# Altium footprint library BCM_TI.PcbLib: 1 footprints
Each footprint in its own frame and in the unit in brackets; x right, y up, seen from the top. Pads: shape width x height; smd on the part's side, far side on the other; paste and mask are expansions set on the pad; w line width, h text height; cw(c..) or ccw(c..) is an arc to the next point about the centre after c.
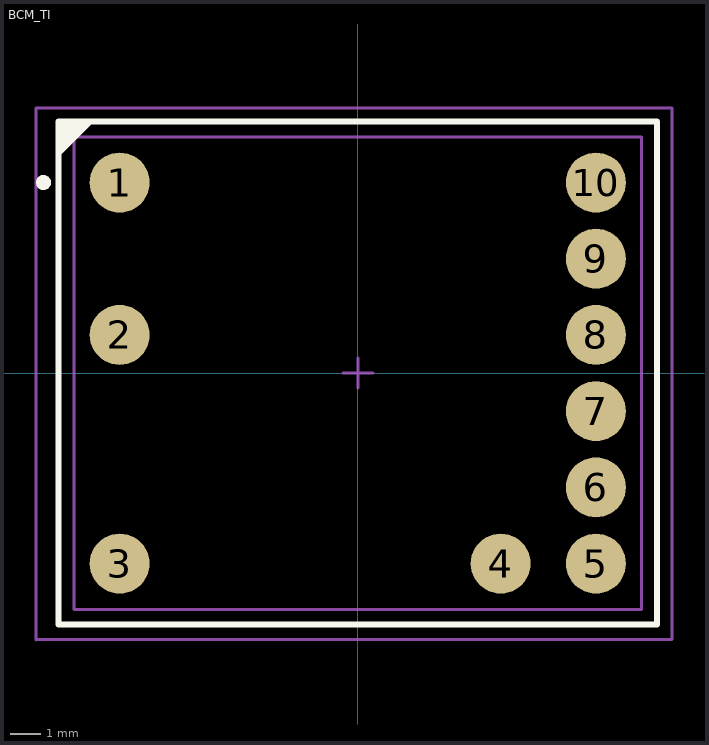
[diagram p0: the footprint, top view; thin cyan lines are the x and y axes]

## BCM_TI [mm]
height 9.09
pads (10):
  round 2 smd: 1(-7.938,6.35) 2(-7.938,1.27) 3(-7.938,-6.35) 4(4.763,-6.35) 5(7.938,-6.35) 6(7.938,-3.81) 7(7.938,-1.27) 8(7.938,1.27) 9(7.938,3.81) 10(7.938,6.35)
Top Overlay:
  circle w0.25: c-10.476,6.35 r0.125
  region: -8.906,8.311 -9.906,7.311 -9.906,8.311
  lines w0.2: -9.924,7.38 -8.924,8.38 ; -9.97,-8.38 -9.97,8.38 9.97,8.38 9.97,-8.38 -9.97,-8.38
Mechanical 13:
  lines w0.1: -9.525,7.875 9.461,7.874 ; -9.461,7.875 -9.461,-7.875 9.461,-7.875 9.461,7.875
Mechanical 15:
  lines w0.1: -10.731,-8.89 -10.731,8.826 10.477,8.826 10.477,-8.875 -10.731,-8.875 ; -0.5,0 0.5,0 ; 0,-0.5 0,0.5
3D body: height 8.79, standoff -0.17, extent -9.461,-7.938 9.458,7.812